# Altium schematic symbol library W25Q64BVSSIG.SchLib: 1 symbol
Pins are listed as number, name and electrical type; pins without a type are passive.

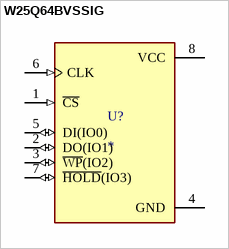
[diagram p0: symbol W25Q64BVSSIG]

## W25Q64BVSSIG
designator U?
IC FLASH 64MBIT 80MHZ 8SOIC; MF: {'manufacturer': u'Winbond Electronics'}; MP: W25Q64BVSSIG; Package: None; Price: None; Value: *; Availability: Unavailable
footprint SOIC127P790X216-8N
pins: 1 ~{CS} (in), 2 DO(IO1) (io), 3 ~{WP}(IO2) (io), 4 GND (power), 5 DI(IO0) (io), 6 CLK (in), 7 ~{HOLD}(IO3) (io), 8 VCC (power)